# Altium footprint library LEMGO10SME-SP3.PcbLib: 1 footprints
Each footprint in its own frame and in the unit in brackets; x right, y up, seen from the top. Pads: shape width x height; smd on the part's side, far side on the other; paste and mask are expansions set on the pad; w line width, h text height; cw(c..) or ccw(c..) is an arc to the next point about the centre after c.
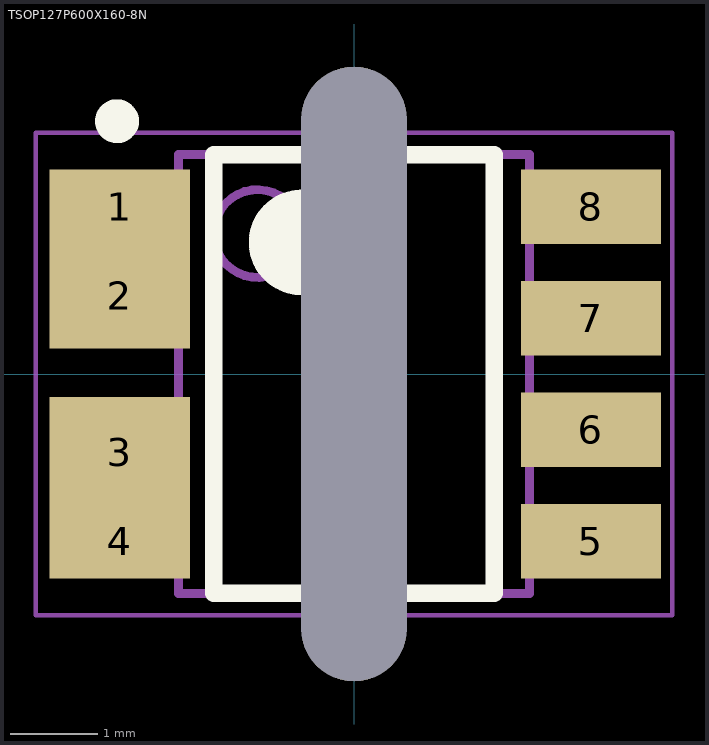
[diagram p0: the footprint, top view; thin cyan lines are the x and y axes]

## TSOP127P600X160-8N [mm] "TSOP, 8-Leads, Body 4,90x3,95mm, Pitch 1,27mm, IPC Medium Density"
height 1.6
pads (9):
  rect 1.6x0.85 smd: 1(-2.667,1.905) 4(-2.667,-1.905) 5(2.7,-1.905) 6(2.7,-0.635) 7(2.7,0.635) 8(2.7,1.905)
  rect 1.6x1.2 smd: 2(-2.667,0.889)
  rect 1.6x1.25 smd: 3(-2.667,-0.889)
  oval 1.2x7 hole 1.2 slot 7 at 90 deg unplated: ""(0,0)
Top Overlay:
  circle w0.6: c-0.6,1.5 r0.3
  circle w0.25: c-2.7,2.88 r0.125
  lines w0.2: -1.6,-2.5 1.6,-2.5 1.6,2.5 -1.6,2.5 -1.6,-2.5
Mechanical 13:
  circle w0.1: c-1.1,1.6 r0.5
  lines w0.1: -2,-2.5 2,-2.5 2,2.5 -2,2.5 -2,-2.5
Mechanical 15:
  lines w0.05: -3.625,-2.75 3.625,-2.75 3.625,2.75 -3.625,2.75 -3.625,-2.75
  lines w0.1: -0.5,0 0.5,0 ; 0,-0.5 0,0.5
3D body "TSOP127P600X160-8N.step": height 1.6, standoff 0.02, extent -2.95,-2.5 2.95,2.5